# EAGLE library part ERA_FEATHER_EURO (library ERA)
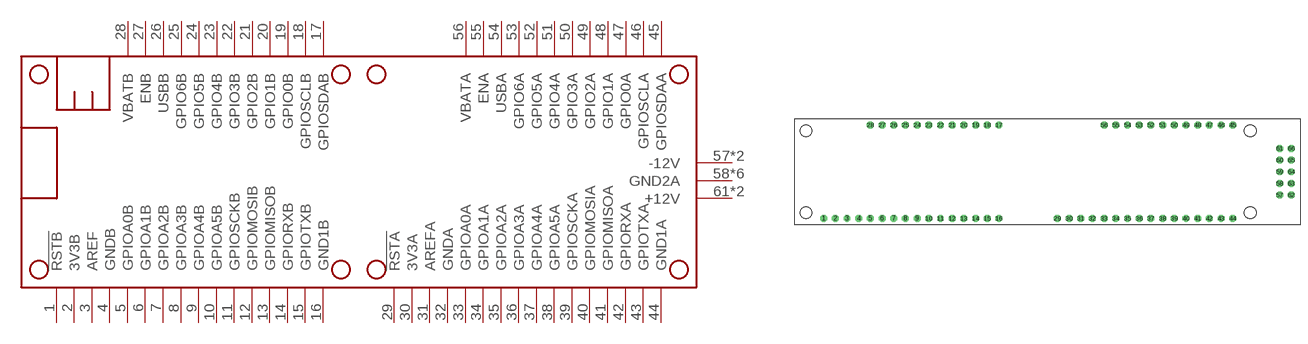
[diagram p3: symbol with the pads of ERA-FEATHER-56-EURO; footprint ERA-FEATHER-56-EURO]

Designator prefix -

## ERA_FEATHER_EURO  [ERA-FEATHER-56-EURO]
1  !RSTB  in
2  3V3B  sup
3  AREF  pas
4  GNDB  pwr
5  GPIOA0B
6  GPIOA1B
7  GPIOA2B
8  GPIOA3B
9  GPIOA4B
10  GPIOA5B
11  GPIOSCKB
12  GPIOMOSIB
13  GPIOMISOB
14  GPIORXB
15  GPIOTXB
16  GND1B  pas
17  GPIOSDAB
18  GPIOSCLB
19  GPIO0B
20  GPIO1B
21  GPIO2B
22  GPIO3B
23  GPIO4B
24  GPIO5B
25  GPIO6B
26  USBB  sup
27  ENB  pas
28  VBATB  sup
29  !RSTA  in
30  3V3A  sup
31  AREFA  pas
32  GNDA  pwr
33  GPIOA0A
34  GPIOA1A
35  GPIOA2A
36  GPIOA3A
37  GPIOA4A
38  GPIOA5A
39  GPIOSCKA
40  GPIOMOSIA
41  GPIOMISOA
42  GPIORXA
43  GPIOTXA
44  GND1A  pas
45  GPIOSDAA
46  GPIOSCLA
47  GPIO0A
48  GPIO1A
49  GPIO2A
50  GPIO3A
51  GPIO4A
52  GPIO5A
53  GPIO6A
54  USBA  sup
55  ENA  pas
56  VBATA  sup
57  -12V  sup
58  GND2A  sup
59  GND2A  sup
60  GND2A  sup
61  +12V  sup
62  -12V  sup
63  GND2A  sup
64  GND2A  sup
65  GND2A  sup
66  +12V  sup

## Footprint ERA-FEATHER-56-EURO (pad centres in mm)
drill 1 octagon: 1 6.35,1.27; 2 8.89,1.27; 3 11.43,1.27; 4 13.97,1.27; 5 16.51,1.27; 6 19.05,1.27; 7 21.59,1.27; 8 24.13,1.27; 9 26.67,1.27; 10 29.21,1.27; 11 31.75,1.27; 12 34.29,1.27; 13 36.83,1.27; 14 39.37,1.27; 15 41.91,1.27; 16 44.45,1.27; 17 44.45,21.59; 18 41.91,21.59; 19 39.37,21.59; 20 36.83,21.59; 21 34.29,21.59; 22 31.75,21.59; 23 29.21,21.59; 24 26.67,21.59; 25 24.13,21.59; 26 21.59,21.59; 27 19.05,21.59; 28 16.51,21.59; 29 57.15,1.27; 30 59.69,1.27; 31 62.23,1.27; 32 64.77,1.27; 33 67.31,1.27; 34 69.85,1.27; 35 72.39,1.27; 36 74.93,1.27; 37 77.47,1.27; 38 80.01,1.27; 39 82.55,1.27; 40 85.09,1.27; 41 87.63,1.27; 42 90.17,1.27; 43 92.71,1.27; 44 95.25,1.27; 45 95.25,21.59; 46 92.71,21.59; 47 90.17,21.59; 48 87.63,21.59; 49 85.09,21.59; 50 82.55,21.59; 51 80.01,21.59; 52 77.47,21.59; 53 74.93,21.59; 54 72.39,21.59; 55 69.85,21.59; 56 67.31,21.59; 57 105.44,6.35; 58 105.44,8.89; 59 105.44,11.43; 60 105.44,13.97; 61 105.44,16.51; 62 107.98,6.35; 63 107.98,8.89; 64 107.98,11.43; 65 107.98,13.97; 66 107.98,16.51
hole 2.54 at 99.06,20.32
hole 2.54 at 99.06,2.54
hole 2.54 at 2.54,20.32
hole 2.54 at 2.54,2.54